# Altium footprint library smd_res.PcbLib: 9 footprints
Each footprint in its own frame and in the unit in brackets; x right, y up, seen from the top. Pads: shape width x height; smd on the part's side, far side on the other; paste and mask are expansions set on the pad; w line width, h text height; cw(c..) or ccw(c..) is an arc to the next point about the centre after c.
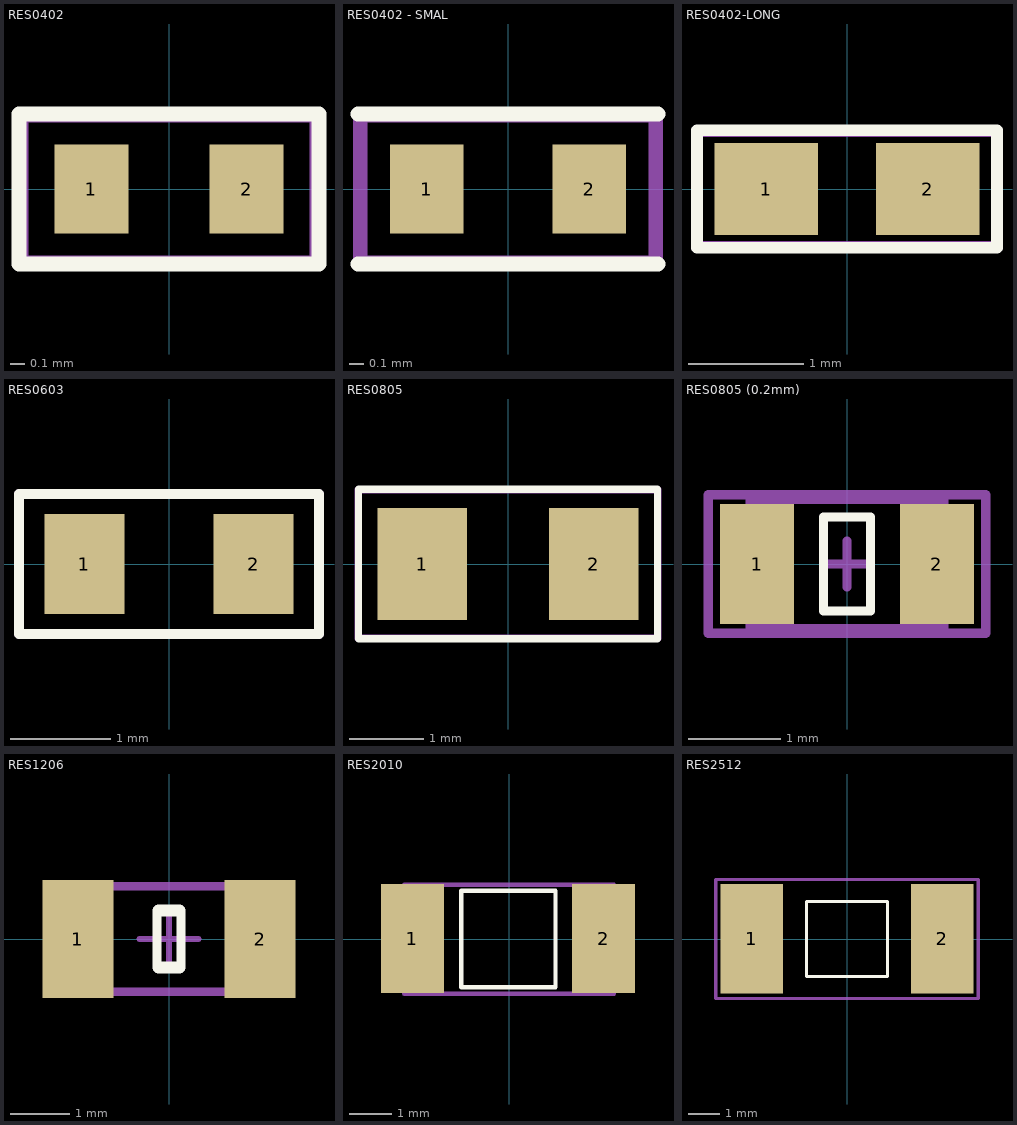
[diagram p0: the footprints below, top view; thin cyan lines are the x and y axes]

## RES0402 [mm] "Chip Resistor, 2-Leads, Body 2,0x1,3mm, IPC Medium Density"
height 0.5
pads (2):
  rect 0.5x0.6 smd: 1(-0.525,0) 2(0.525,0)
Top Overlay:
  lines w0.1: -0.991,0.508 -1.016,0.508 ; -1.016,0.508 -1.016,-0.508 1.016,-0.508 1.016,0.508 -1.016,0.508
Mechanical 29:
  lines w0.1: -1,-0.5 1,-0.5 1,0.5 -1,0.5 -1,-0.5
  text ".Designator" at -0.864,-0.203 h0.7
  text ".Comment" at -0.889,0.672 h0.7
3D body "CAP0402.step": height 0.5, standoff 0, extent -0.5,-0.25 0.5,0.25
3D body "RES0402.step": height 0.35, standoff 0, extent -0.5,-0.25 0.5,0.25

## RES0402 - SMAL [mm] "Chip Resistor, 2-Leads, Body 2,0x1,3mm, IPC Medium Density"
height 0.5
pads (2):
  rect 0.5x0.6 smd: 1(-0.55,0) 2(0.55,0)
Top Overlay:
  lines w0.1: -1.016,-0.508 1.016,-0.508 ; -0.991,0.508 -1.016,0.508 1.016,0.508
Mechanical 29:
  lines w0.1: -1,-0.5 -1,0.5 1,0.5 1,-0.5 -1,-0.5
  text ".Designator" at -0.725,-0.125 h0.7
3D body "RES0402.step": height 0.35, standoff 0, extent -0.5,-0.25 0.5,0.25
3D body "CAP0402.step": height 0.5, standoff 0, extent -0.5,-0.25 0.5,0.25

## RES0402-LONG [mm] "Chip Resistor, 2-Leads, Body 2,0x1,3mm, IPC Medium Density"
height 0.5
pads (2):
  rect 0.9x0.8 smd: 1(-0.7,0) 2(0.7,0)
Top Overlay:
  lines w0.1: -1.016,0.508 1.3,0.508 1.3,-0.508 -1.3,-0.508 -1.3,0.508 -0.991,0.508
Mechanical 29:
  lines w0.1: -1.3,-0.5 -1.3,0.5 1.3,0.5 1.3,-0.5 -1.3,-0.5
  text ".Designator" at -0.864,-0.203 h0.7
3D body "RES0402.step": height 0.35, standoff 0, extent -0.5,-0.25 0.5,0.25
3D body "CAP0402.step": height 0.5, standoff 0, extent -0.5,-0.25 0.5,0.25

## RES0603 [mm] "Chip Resistor, 2-Leads, Body 2,0x1,3mm, IPC Medium Density"
height 0.5
pads (2):
  rect 0.8x1 smd: 1(-0.847,0) 2(0.847,0)
Top Overlay:
  lines w0.1: -1.5,-0.7 1.5,-0.7 1.5,0.7 -1.5,0.7 -1.5,-0.7
Mechanical 29:
  lines w0.1: -1.5,-0.7 -1.5,0.7 1.5,0.7 1.5,-0.7 -1.5,-0.7
  text ".Comment" at -0.889,0.972 h0.7
  text ".Designator" at -0.356,-0.203 h0.7
3D body "RES-0603.step": height 0.56, standoff 0, extent -0.85,-0.4 0.85,0.4

## RES0805 [mm]
pads (2):
  rect 1.2x1.5 smd: 1(-1.148,0) 2(1.148,0)
Top Overlay:
  lines w0.1: -2,-1 2,-1 2,1 -2,1 -2,-1
Mechanical 29:
  lines w0.1: -2.007,-0.991 2.007,-0.991 2.007,0.991 -2.007,0.991 -2.007,-0.991
  text ".Designator" at -1.6,-0.4 h1
3D body "User Library-res0805.STEP": height 0.53, standoff 0.02, extent -0.968,-0.625 1.038,0.62

## RES0805 (0.2mm) [mm] "Chip Resistor, 2-Leads, Body 2,0x1,3mm, IPC Medium Density"
height 0.5
pads (2):
  rect 0.8x1.3 smd: 1(-0.972,0) 2(0.972,0)
Top Overlay:
  lines w0.1: -0.254,-0.508 -0.254,0.508 0.254,0.508 0.254,-0.508 -0.254,-0.508
Mechanical 13:
  lines w0.1: -1.05,-0.7 1.05,-0.7 1.05,0.7 -1.05,0.7 -1.05,-0.7
Mechanical 15:
  lines w0.1: -0.25,0 0.25,0 ; 0,-0.25 0,0.25 ; -1.5,-0.75 -1.5,0.75 1.5,0.75 1.5,-0.75 -1.5,-0.75
3D body "User Library-res0805.STEP": height 0.53, standoff 0.02, extent -1.003,-0.62 1.003,0.625

## RES1206 [mm]
pads (2):
  rect 1.2x2 smd: 1(-1.544,0) 2(1.544,0)
Top Overlay:
  lines w0.15: -0.203,-0.483 -0.203,0.483 ; 0.203,-0.483 0.203,0.483
  lines w0.2: -0.178,-0.483 0.178,-0.483 ; -0.178,0.483 0.178,0.483
Mechanical 13:
  lines w0.1: -1.625,-0.875 1.625,-0.875 1.625,0.875 -1.625,0.875 -1.625,-0.875
Mechanical 15:
  lines w0.1: -0.5,0 0.5,0 ; 0,-0.5 0,0.5 ; -1.854,-0.914 1.854,-0.914 1.854,0.914 -1.854,0.914 -1.854,-0.914
3D body "RES_3216-1206.step": height 0.85, standoff 0, extent -1.675,-0.875 1.675,0.855

## RES2010 [mm]
pads (2):
  rect 1.5x2.6 smd: 1(-2.305,0.012) 2(2.252,0.012)
Top Overlay:
  lines w0.1: -1.14,-1.147 1.104,-1.147 1.104,1.158 -1.14,1.158 -1.14,-1.147
Mechanical 13:
  lines w0.1: -2.5,-1.3 2.5,-1.3 2.5,1.3 -2.5,1.3 -2.5,-1.3
3D body "RES2010.step": height 0.55, standoff 0, extent -2.5,-1.234 2.5,1.286

## RES2512 [mm]
pads (2):
  rect 2x3.5 smd: 1(-3.051,0.012) 2(3.049,0.012)
Top Overlay:
  lines w0.1: -1.3,-1.2 -1.3,1.2 1.3,1.2 1.3,-1.2 -1.3,-1.2
Mechanical 13:
  lines w0.1: -4.2,-1.9 -4.2,1.9 4.2,1.9 4.2,-1.9 -4.2,-1.9
3D body "RES2512.step": height 0.62, standoff 0, extent -3.195,-1.595 3.125,1.605